# Altium footprint library B-NT_Z.PcbLib: 13 footprints
Each footprint in its own frame and in the unit in brackets; x right, y up, seen from the top. Pads: shape width x height; smd on the part's side, far side on the other; paste and mask are expansions set on the pad; w line width, h text height; cw(c..) or ccw(c..) is an arc to the next point about the centre after c.
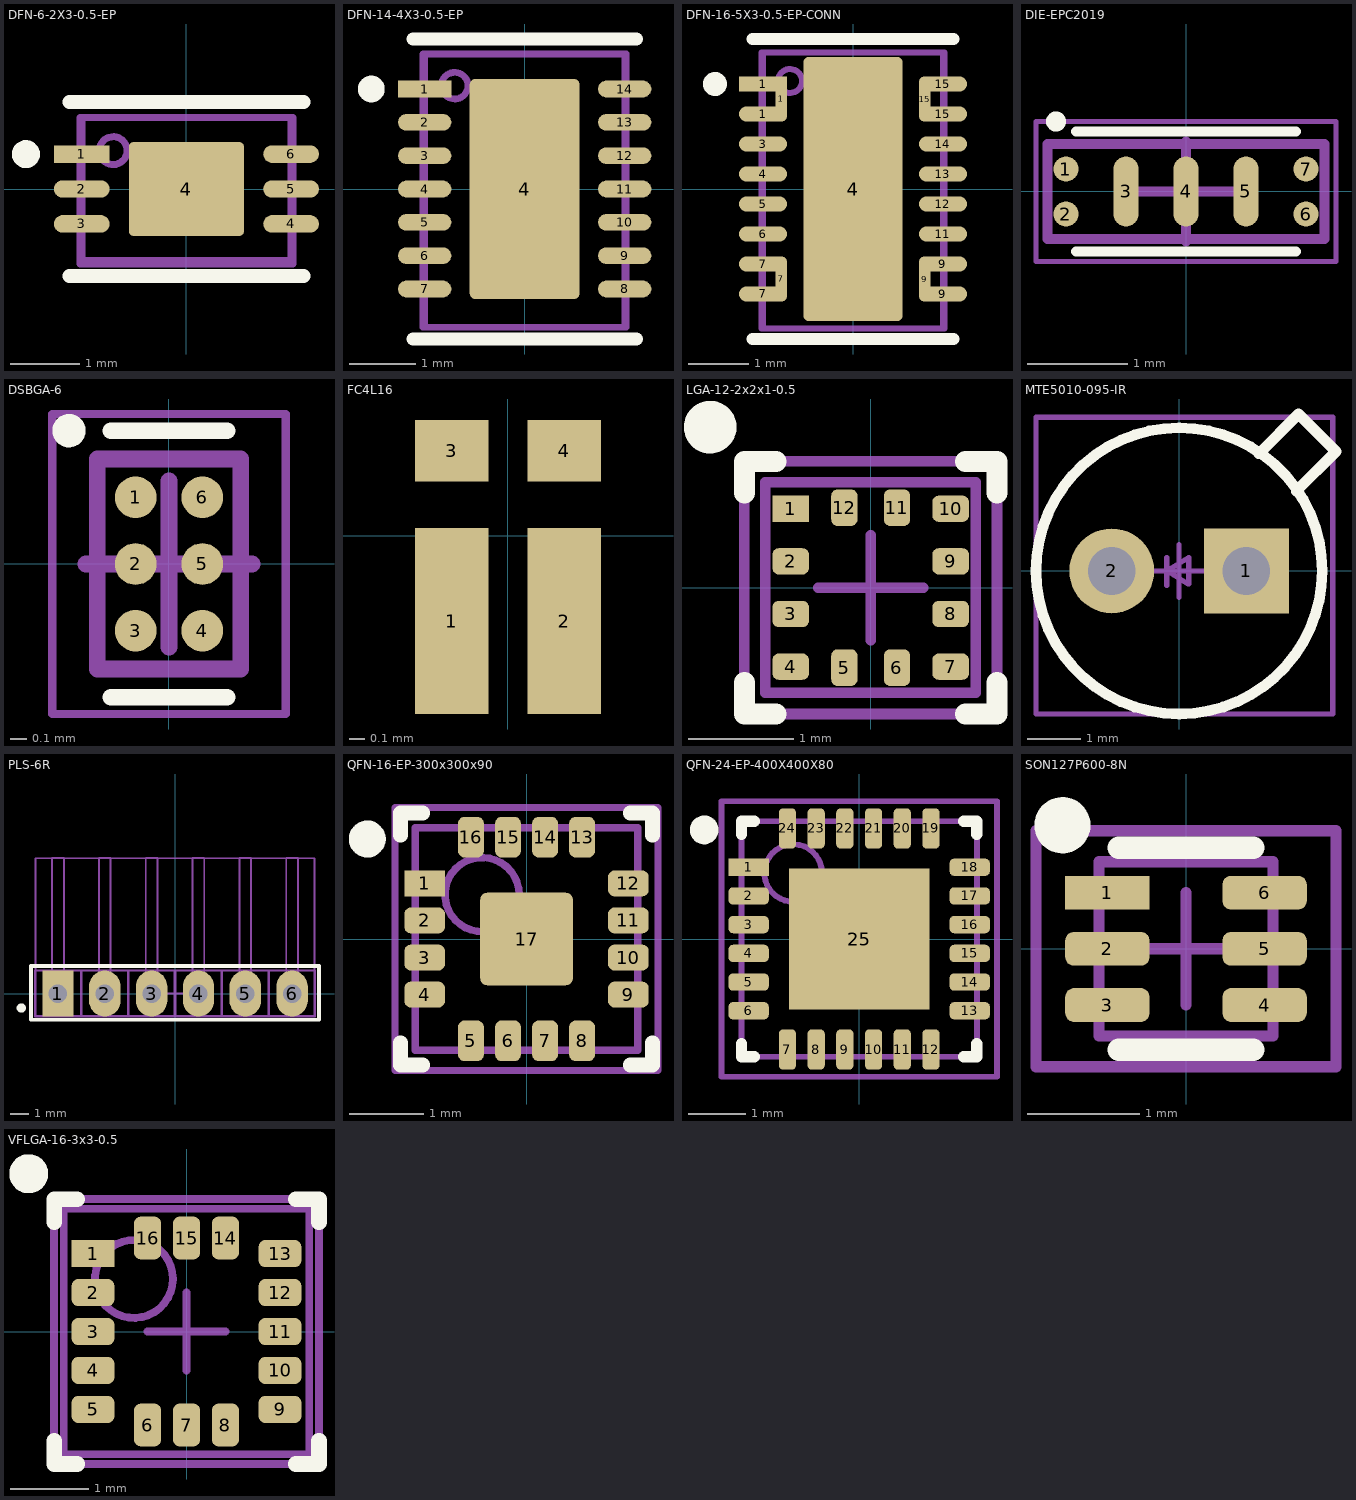
[diagram p0: the footprints below, top view; thin cyan lines are the x and y axes]

## DFN-6-2X3-0.5-EP [mm] "6-Lead Plastic DFN EP (2 mm x 3mm)"
height 0.8
pads (7):
  rect 0.8x0.25 smd: 1(-1.5,0.5)
  oval 0.8x0.25 smd: 2(-1.5,0) 3(-1.5,-0.5) 4(1.5,-0.5) 5(1.5,0) 6(1.5,0.5)
  rrect10% 1.65x1.35 smd: 4(0,0)
Top Overlay:
  circle w0.2: c-2.3,0.5 r0.1
  lines w0.2: -1.675,-1.25 1.675,-1.25 ; -1.675,1.25 1.675,1.25
M3 Top Assy:
  circle w0.1: c-1.05,0.55 r0.2
  lines w0.1: -1.5,-1.025 1.5,-1.025 1.5,1.025 -1.5,1.025 -1.5,-1.025
M8 Top Brd Anno:
  lines w0.1: -0.4,0 0.4,0 ; 0,-0.4 0,0.4 ; -1.525,-1.075 -1.525,1.025 0,1.025 1.525,1.025 1.525,-1.075 -1.525,-1.075
3D body "User Library-DFN-6.STEP": height 0.8, standoff 0, extent -1.5,-1 1.5,1

## DFN-14-4X3-0.5-EP [mm] "14-Lead Plastic DFN EP (4mm x 3mm)"
height 0.8
pads (15):
  rect 0.8x0.25 smd: 1(-1.5,1.5)
  oval 0.8x0.25 smd: 2(-1.5,1) 3(-1.5,0.5) 4(-1.5,0) 5(-1.5,-0.5) 6(-1.5,-1) 7(-1.5,-1.5) 8(1.5,-1.5) 9(1.5,-1) 10(1.5,-0.5) 11(1.5,0) 12(1.5,0.5) 13(1.5,1) 14(1.5,1.5)
  rrect10% 1.65x3.3 smd: 4(0,0)
Top Overlay:
  circle w0.2: c-2.3,1.5 r0.1
  lines w0.2: -1.675,-2.25 1.675,-2.25 ; -1.675,2.25 1.675,2.25
M3 Top Assy:
  circle w0.1: c-1.05,1.55 r0.2
  lines w0.1: -1.5,-2.075 -1.5,2.025 1.5,2.025 1.5,-2.075 -1.5,-2.075
M8 Top Brd Anno:
  lines w0.1: -0.4,0 0.4,0 ; 0,-0.4 0,0.4 ; -1.525,-2.075 1.525,-2.075 1.525,2.025 0,2.025 -1.525,2.025 -1.525,-2.075
3D body "User Library-My-DFN-14-4x3-0_5.STEP": height 0.8, standoff 0, extent -1.56,-2.05 1.56,2.05

## DFN-16-5X3-0.5-EP-CONN [mm] "16-Lead Plastic DFN EP (5mm x 3mm)"
height 0.8
pads (21):
  oval 0.8x0.25 smd: 1(-1.5,1.25) 3(-1.5,0.75) 4(-1.5,0.25) 5(-1.5,-0.25) 6(-1.5,-0.75) 7(-1.5,-1.75) 7(-1.5,-1.25) 9(1.5,-1.75) 9(1.5,-1.25) 11(1.5,-0.75) 12(1.5,-0.25) 13(1.5,0.25) 14(1.5,0.75) 15(1.5,1.25) 15(1.5,1.75)
  rect 0.8x0.25 smd: 1(-1.5,1.75)
  oval 0.19x0.75 smd: 1(-1.195,1.5) 7(-1.195,-1.5) 9(1.195,-1.5) 15(1.195,1.5)
  rrect10% 1.65x4.4 smd: 4(0,0)
Top Layer:
  lines w0.1: -0.25,0 0.25,0 ; 0,-0.25 0,0.25
Top Overlay:
  circle w0.2: c-2.3,1.75 r0.1
  lines w0.2: -1.675,-2.5 1.675,-2.5 ; -1.675,2.5 1.675,2.5
M3 Top Assy:
  circle w0.1: c-1.05,1.8 r0.2
  lines w0.1: -1.5,-2.325 1.5,-2.325 1.5,2.275 -1.5,2.275 -1.5,-2.325
M8 Top Brd Anno:
  lines w0.1: -0.4,0 0.4,0 ; 0,-0.4 0,0.4 ; -1.525,-2.325 -1.525,2.275 0,2.275 1.525,2.275 1.525,-2.325 -1.525,-2.325
3D body "User Library-My-DFN-16-5x3-0_5.STEP": height 0.8, standoff 0, extent -1.56,-2.55 1.56,2.55

## DIE-EPC2019 [mm] "Die, 6-Leads, Body 2,77x0,95mmx0,82mm"
height 0.815
pads (7):
  round 0.25 smd: 1(-1.2,0.225) 2(-1.2,-0.225) 6(1.2,-0.225) 7(1.2,0.225)
  oval 0.25x0.7 smd: 3(-0.6,0) 4(0,0) 5(0.6,0)
Top Overlay:
  circle w0.1: c-1.3,0.7 r0.05
  lines w0.1: -1.1,-0.6 1.1,-0.6 ; -1.1,0.6 1.1,0.6
M3 Top Assy:
  lines w0.1: -1.383,-0.475 1.383,-0.475 1.383,0.475 -1.383,0.475 -1.383,-0.475 ; -1.383,-0.475 -1.383,-0.475
M8 Top Brd Anno:
  lines w0.05: -1.5,-0.7 1.5,-0.7 1.5,0.7 -1.5,0.7 -1.5,-0.7
  lines w0.1: -0.5,0 0.5,0 ; 0,-0.5 0,0.5
3D body "DIE-EPC2019.STEP": height 0.68, standoff -0.1, extent -1.383,-0.475 1.383,0.475

## DSBGA-6 [mm] "BGA, 6-Leads, Body 0,86x1,25mmx0,63mm, Pitch 0,40mm"
height 0.63
pads (6):
  round 0.25 smd: 1(-0.2,0.4) 2(-0.2,0) 3(-0.2,-0.4) 4(0.2,-0.4) 5(0.2,0) 6(0.2,0.4)
Top Overlay:
  circle w0.1: c-0.6,0.8 r0.05
  lines w0.1: -0.35,-0.8 0.35,-0.8 ; -0.35,0.8 0.35,0.8
M3 Top Assy:
  lines w0.1: -0.43,-0.63 -0.43,0.63 0.43,0.63 0.43,-0.63 -0.43,-0.63
M8 Top Brd Anno:
  lines w0.05: -0.7,-0.9 -0.7,0.9 0.7,0.9 0.7,-0.9 -0.7,-0.9
  lines w0.1: -0.5,0 0.5,0 ; 0,-0.5 0,0.5
3D body "DSBGA-6.step": height 0.63, standoff 0, extent -0.43,-0.63 0.43,0.63

## FC4L16 [mm] "SMD 0604 width"
height 0.5
pads (4):
  rect 0.475x1.2 smd: 1(-0.362,-0.55) 2(0.363,-0.55)
  rect 0.475x0.4 smd: 3(-0.362,0.55) 4(0.363,0.55)
3D body "FC4L16R010FER.stp": height 0.5, standoff 0, extent -0.394,-0.95 0.394,0.65

## LGA-12-2x2x1-0.5 [mm] "LGA, 12-Leads, Body 2,00x2,00mm, Pitch 0,50mm, IPC Medium Density"
height 1
pads (12):
  rect 0.35x0.25 smd: 1(-0.76,0.75)
  rrect50% 0.35x0.25 smd: 2(-0.76,0.25) 3(-0.76,-0.25) 4(-0.76,-0.75) 7(0.76,-0.75) 8(0.76,-0.25) 9(0.76,0.25) 10(0.76,0.75)
  rrect50% 0.25x0.35 smd: 5(-0.25,-0.76) 6(0.25,-0.76) 11(0.25,0.76) 12(-0.25,0.76)
Top Overlay:
  circle w0.25: c-1.525,1.525 r0.125
  lines w0.2: -1.2,-0.9 -1.2,-1.2 -0.9,-1.2 ; -1.2,0.9 -1.2,1.2 -0.9,1.2 ; 0.9,-1.2 1.2,-1.2 1.2,-0.9 ; 0.9,1.2 1.2,1.2 1.2,0.9
M3 Top Assy:
  lines w0.1: -1,-1 1,-1 1,1 -1,1 -1,-1
M8 Top Brd Anno:
  lines w0.1: -0.5,0 0.5,0 ; 0,-0.5 0,0.5 ; -1.2,-1.2 1.2,-1.2 1.2,1.2 -1.2,1.2 -1.2,-1.2
3D body "User Library-lga-2x2x0_9.step": height 0.95, standoff 0, extent -1,-1 1,1

## MTE5010-095-IR [mm]
height 3.6
pads (2):
  rect 1.6x1.6 hole 0.9: 1(1.27,0)
  round 1.6 hole 0.9: 2(-1.27,0)
Top Overlay:
  circle w0.2: c0,0 r2.7
  lines w0.2: 1.506,2.214 2.254,2.961 2.961,2.254 2.214,1.506
M3 Top Assy:
  circle w0.1: c0,0 r2.7
  lines w0.1: -0.233,-0.275 -0.233,0.25 ; 0.181,-0.249 0.181,0.248 -0.233,0 0.182,-0.249 ; 1.506,2.214 2.254,2.961 2.961,2.254 2.214,1.506
M8 Top Brd Anno:
  lines w0.1: -0.5,0 0.5,0 ; 0,-0.5 0,0.5 ; -2.7,-2.7 -2.7,2.9 2.9,2.9 2.9,-2.7 -2.7,-2.7
3D body "MTE5010-095-IR.STEP": height 3.6, standoff -2.54, extent -2.7,-2.7 2.908,2.908

## PLS-6R [mm]
pads (6):
  rect 1.7x2.5 hole 1: 1(-6.35,0)
  oval 1.7x2.5 hole 1: 2(-3.81,0) 3(-1.27,0) 4(1.27,0) 5(3.81,0) 6(6.35,0)
Top Overlay:
  circle w0.254: c-8.335,-0.78 r0.127
  lines w0.2: -7.81,-1.425 -7.81,1.5 7.81,1.5 7.81,-1.425 -7.81,-1.425
M3 Top Assy:
  lines w0.1: -6.67,0.32 -6.67,7.35 -6.03,7.35 -6.03,0.32 ; -6.67,0.32 -6.03,0.32 ; -6.67,0.32 -6.67,-0.32 -6.03,-0.32 -6.03,0.32 ; -4.13,0.32 -3.49,0.32 ; -4.13,0.32 -4.13,-0.32 -3.49,-0.32 -3.49,0.32 ; -4.13,0.32 -4.13,7.35 -3.49,7.35 -3.49,0.32 ; -1.59,0.32 -0.95,0.32 ; -1.59,0.32 -1.59,-0.32 -0.95,-0.32 -0.95,0.32 ; -1.59,0.32 -1.59,7.35 -0.95,7.35 -0.95,0.32 ; 0.95,0.32 1.59,0.32 ; 0.95,0.32 0.95,-0.32 1.59,-0.32 1.59,0.32 ; 0.95,0.32 0.95,7.35 1.59,7.35 1.59,0.32 ; 3.49,0.32 4.13,0.32 ; 3.49,0.32 3.49,-0.32 4.13,-0.32 4.13,0.32 ; 3.49,0.32 3.49,7.35 4.13,7.35 4.13,0.32 ; 6.03,0.32 6.67,0.32 ; 6.03,0.32 6.03,-0.32 6.67,-0.32 6.67,0.32 ; 6.03,0.32 6.03,7.35 6.67,7.35 6.67,0.32 ; -7.6,-1.25 -5.1,-1.25 -5.1,1.25 -7.6,1.25 -7.6,-1.25 ; -5.06,-1.25 -2.56,-1.25 -2.56,1.25 -5.06,1.25 -5.06,-1.25 ; -2.52,-1.25 -0.02,-1.25 -0.02,1.25 -2.52,1.25 -2.52,-1.25 ; 0.02,-1.25 2.52,-1.25 2.52,1.25 0.02,1.25 0.02,-1.25 ; 2.56,-1.25 5.06,-1.25 5.06,1.25 2.56,1.25 2.56,-1.25 ; 5.1,-1.25 7.6,-1.25 7.6,1.25 5.1,1.25 5.1,-1.25
M8 Top Brd Anno:
  lines w0.1: -0.5,0 0.5,0 ; 0,-0.5 0,0.5 ; -7.565,-1.2 -7.565,7.345 7.565,7.345 7.565,-1.2 -7.565,-1.2
3D body "User Library-PLS-6R-1.step": height 5.45, standoff -3, extent -7.62,-1.27 7.62,7.35

## QFN-16-EP-300x300x90 [mm] "PQFN, 16-Leads, Body 3,00x3,00mm, Pitch 0,50mm, Thermal Pad 1,25x1,25mm, IPC Medium Density"
height 0.9
pads (17):
  rect 0.55x0.35 smd: 1(-1.375,0.75)
  rrect50% 0.55x0.35 smd: 2(-1.375,0.25) 3(-1.375,-0.25) 4(-1.375,-0.75) 9(1.375,-0.75) 10(1.375,-0.25) 11(1.375,0.25) 12(1.375,0.75)
  rrect50% 0.35x0.55 smd: 5(-0.75,-1.375) 6(-0.25,-1.375) 7(0.25,-1.375) 8(0.75,-1.375) 13(0.75,1.375) 14(0.25,1.375) 15(-0.25,1.375) 16(-0.75,1.375)
  rrect15% 1.25x1.25 smd: 17(0,0)
Top Overlay:
  circle w0.25: c-2.15,1.35 r0.125
  lines w0.2: -1.7,-1.4 -1.7,-1.7 -1.4,-1.7 ; -1.7,1.4 -1.7,1.7 -1.4,1.7 ; 1.4,-1.7 1.7,-1.7 1.7,-1.4 ; 1.4,1.7 1.7,1.7 1.7,1.4
M3 Top Assy:
  circle w0.1: c-0.6,0.6 r0.5
  lines w0.1: -1.5,-1.5 -1.5,1.5 1.5,1.5 1.5,-1.5 -1.5,-1.5
M8 Top Brd Anno:
  lines w0.1: -0.5,0 0.5,0 ; 0,-0.5 0,0.5 ; -1.775,-1.775 -1.775,1.775 1.775,1.775 1.775,-1.775 -1.775,-1.775
3D body "PQFN50P300X300X90_HS-17N.step": height 0.9, standoff 0, extent -1.5,-1.5 1.5,1.5

## QFN-24-EP-400X400X80 [mm] "PQFN, 24-Leads, Body 4,00x4,00mm, Pitch 0,50mm, Thermal Pad 2,45x2,45mm, IPC Medium Density"
height 0.8
pads (25):
  rect 0.7x0.3 smd: 1(-1.925,1.25)
  rrect50% 0.7x0.3 smd: 2(-1.925,0.75) 3(-1.925,0.25) 4(-1.925,-0.25) 5(-1.925,-0.75) 6(-1.925,-1.25) 13(1.925,-1.25) 14(1.925,-0.75) 15(1.925,-0.25) 16(1.925,0.25) 17(1.925,0.75) 18(1.925,1.25)
  rrect50% 0.3x0.7 smd: 7(-1.25,-1.925) 8(-0.75,-1.925) 9(-0.25,-1.925) 10(0.25,-1.925) 11(0.75,-1.925) 12(1.25,-1.925) 19(1.25,1.925) 20(0.75,1.925) 21(0.25,1.925) 22(-0.25,1.925) 23(-0.75,1.925) 24(-1.25,1.925)
  rect 2.45x2.45 smd: 25(0,0)
Top Overlay:
  circle w0.25: c-2.7,1.9 r0.125
  lines w0.2: -2.05,-1.825 -2.05,-2.05 -1.825,-2.05 ; -2.05,1.825 -2.05,2.05 -1.825,2.05 ; 1.825,-2.05 2.05,-2.05 2.05,-1.825 ; 1.825,2.05 2.05,2.05 2.05,1.825
M3 Top Assy:
  circle w0.1: c-1.15,1.15 r0.5
  lines w0.1: -2.05,-2.05 -2.05,2.05 2.05,2.05 2.05,-2.05 -2.05,-2.05
M8 Top Brd Anno:
  lines w0.1: -0.5,0 0.5,0 ; 0,-0.5 0,0.5 ; -2.4,-2.4 -2.4,2.4 2.4,2.4 2.4,-2.4 -2.4,-2.4
3D body "PQFN50P400X400X80_HS-25N.step": height 0.8, standoff 0, extent -2.05,-2.05 2.05,2.05

## SON127P600-8N [mm]
height 0.8
pads (6):
  rect 0.75x0.3 smd: 1(-0.7,0.5)
  rrect50% 0.75x0.3 smd: 2(-0.7,0) 3(-0.7,-0.5) 4(0.7,-0.5) 5(0.7,0) 6(0.7,0.5)
Top Overlay:
  circle w0.25: c-1.1,1.1 r0.125
  lines w0.2: -0.6,-0.9 0.6,-0.9 ; -0.6,0.9 0.6,0.9
M3 Top Assy:
  lines w0.1: -0.775,-0.775 0.775,-0.775 0.775,0.775 -0.775,0.775 -0.775,-0.775
M8 Top Brd Anno:
  lines w0.1: -0.5,0 0.5,0 ; 0,-0.5 0,0.5 ; -1.335,-1.05 1.335,-1.05 1.335,1.05 -1.335,1.05 -1.335,-1.05
3D body "SON127P600-8N.step": height 0.8, standoff 0, extent -0.825,-0.775 0.825,0.775

## VFLGA-16-3x3-0.5 [mm] "PQFN, 16-Leads, Body 3,00x3,00mm, Pitch 0,50mm, IPC Medium Density"
height 1
pads (16):
  rect 0.55x0.35 smd: 1(-1.2,1)
  rrect50% 0.55x0.35 smd: 2(-1.2,0.5) 3(-1.2,0) 4(-1.2,-0.5) 5(-1.2,-1) 9(1.2,-1) 10(1.2,-0.5) 11(1.2,0) 12(1.2,0.5) 13(1.2,1)
  rrect50% 0.35x0.55 smd: 6(-0.5,-1.2) 7(0,-1.2) 8(0.5,-1.2) 14(0.5,1.2) 15(0,1.2) 16(-0.5,1.2)
Top Overlay:
  circle w0.25: c-2.025,2.025 r0.125
  lines w0.2: -1.7,-1.4 -1.7,-1.7 -1.4,-1.7 ; -1.7,1.4 -1.7,1.7 -1.4,1.7 ; 1.4,-1.7 1.7,-1.7 1.7,-1.4 ; 1.4,1.7 1.7,1.7 1.7,1.4
M3 Top Assy:
  circle w0.1: c-0.675,0.675 r0.5
  lines w0.1: -1.575,-1.575 1.575,-1.575 1.575,1.575 -1.575,1.575 -1.575,-1.575
M8 Top Brd Anno:
  lines w0.1: -0.5,0 0.5,0 ; 0,-0.5 0,0.5 ; -1.7,-1.7 1.7,-1.7 1.7,1.7 -1.7,1.7 -1.7,-1.7
3D body "PQFN50P300X300X100-16N.step": height 1, standoff 0, extent -1.575,-1.575 1.575,1.575